# EAGLE library part GH1.25-8P (library JST-GH1.25)
JST GH 1.25mm PITCH SMD HEADER
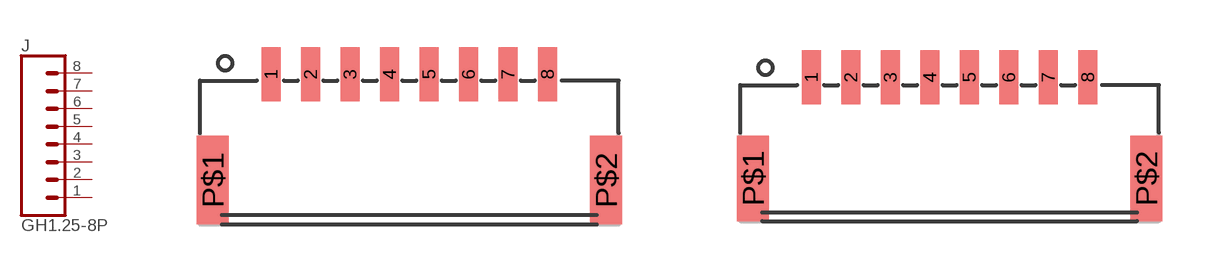
[diagram p2: symbol with the pads of BM08B-GHS-TBT; footprints BM08B-GHS-TBT, SM08B-GHS-TB]

Designator prefix J

## GH1.25-8P-BM08B-GHS-TBT  [BM08B-GHS-TBT]
1  1  pas
2  2  pas
3  3  pas
4  4  pas
5  5  pas
6  6  pas
7  7  pas
8  8  pas

## GH1.25-8P-SM08B-GHS-TB  [SM08B-GHS-TB]
Pads as for BM08B-GHS-TBT

## Footprint BM08B-GHS-TBT (pad centres in mm)
TOP ENTRY JST GH 1.25mm SMD HEADER
smd 0.6 x 1.7: 1 -4.375,4.75; 2 -3.125,4.75; 3 -1.875,4.75; 4 -0.625,4.75; 5 0.625,4.75; 6 1.875,4.75; 7 3.125,4.75; 8 4.375,4.75
smd 1 x 2.8: P$1 -6.225,1.4; P$2 6.225,1.4

## Footprint SM08B-GHS-TB (pad centres in mm)
SIDE ENTRY JST GH 1.25mm SMD HEADER
smd 0.6 x 1.7: 1 -4.375,4.55; 2 -3.125,4.55; 3 -1.875,4.55; 4 -0.625,4.55; 5 0.625,4.55; 6 1.875,4.55; 7 3.125,4.55; 8 4.375,4.55
smd 1 x 2.7: P$1 -6.225,1.35; P$2 6.225,1.35